# Altium schematic symbol library Fromm.SchLib: 90 symbols
Pins are listed as number, name and electrical type; pins without a type are passive.

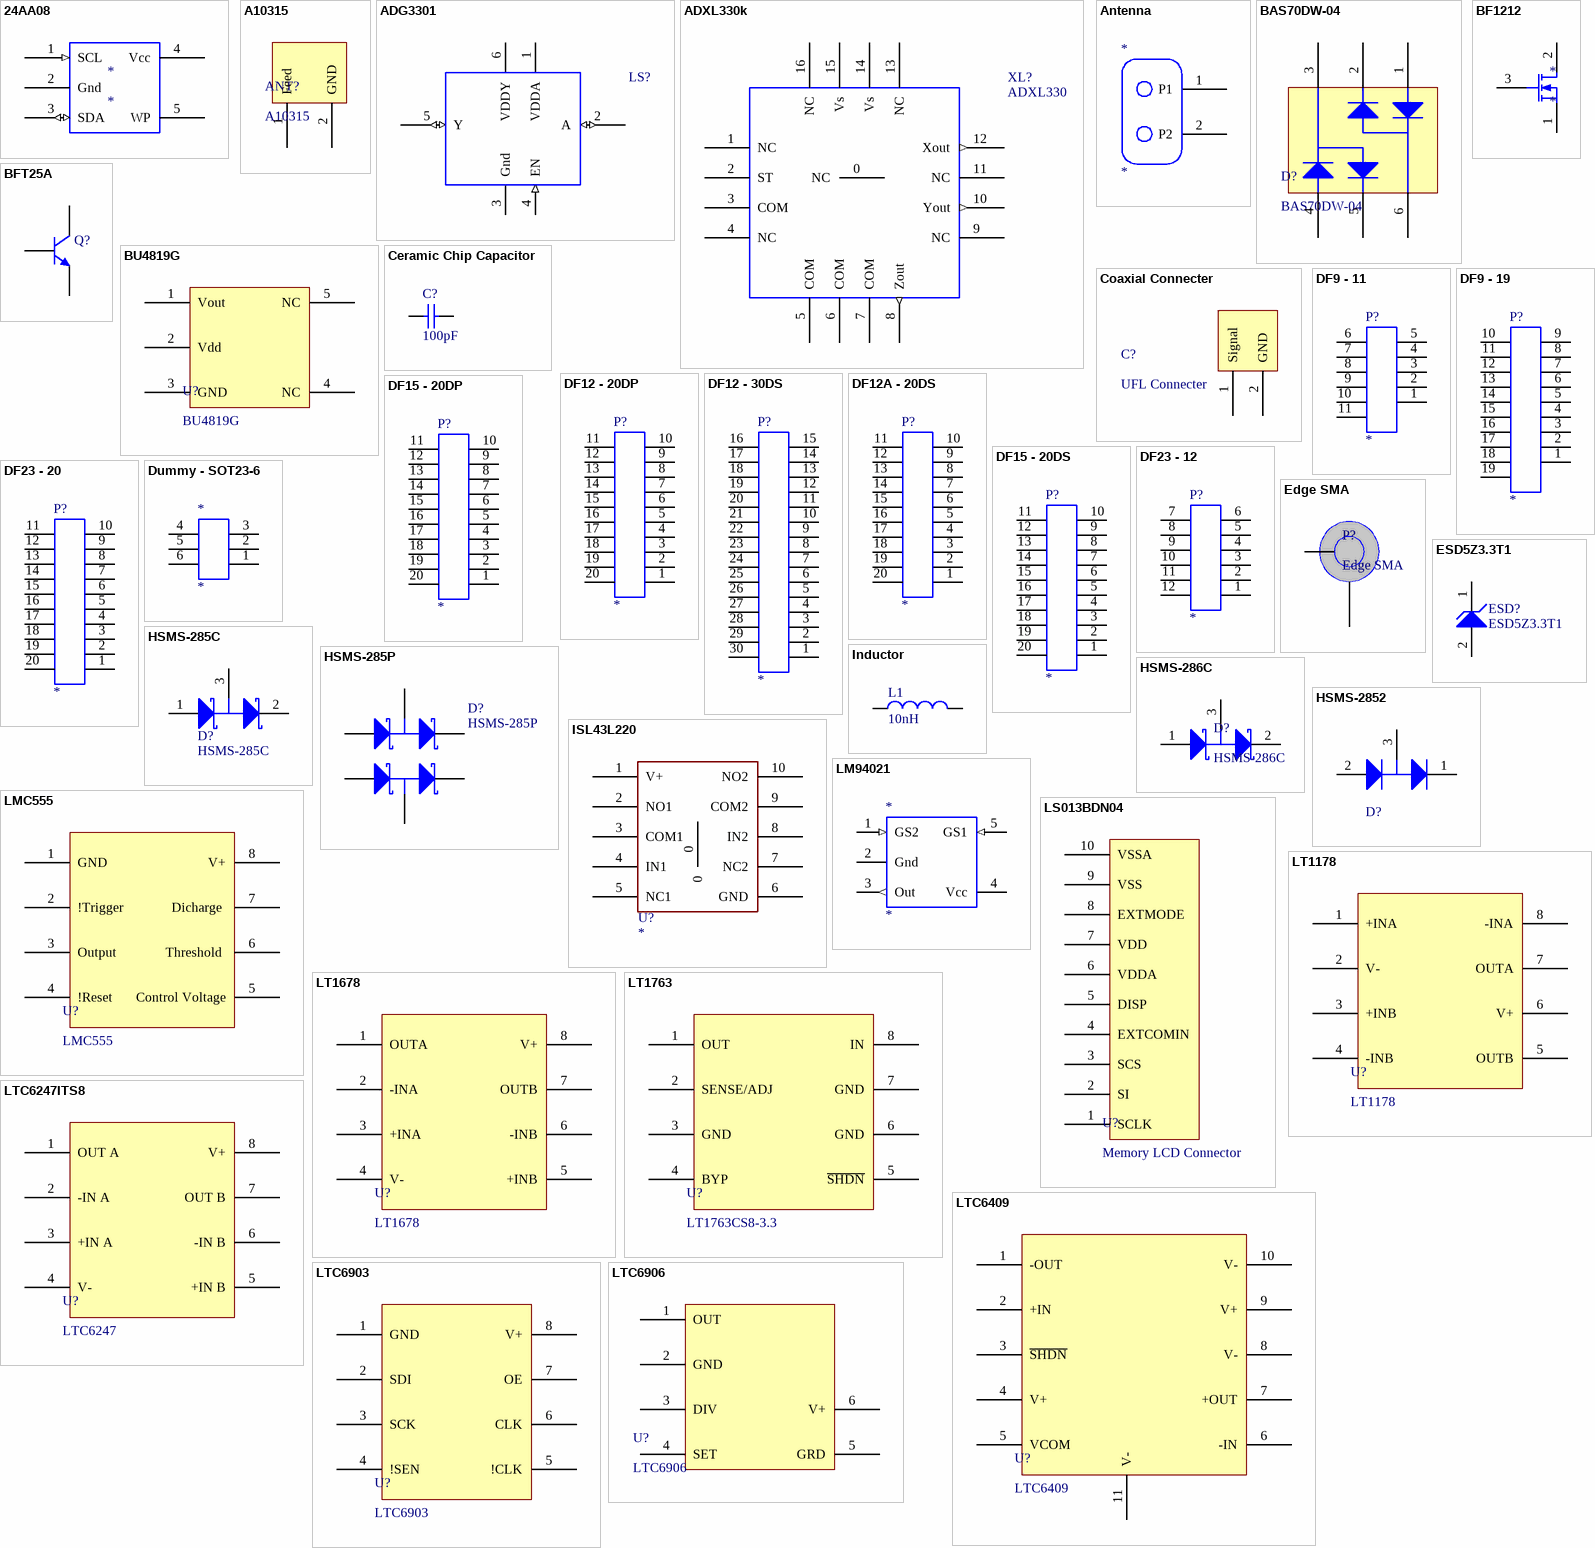
[diagram p0: symbols 24AA08 to LTC6906]

## 24AA08
designator *
Microchip Technology - I2C SERIAL 8K EEPROM - 1.7v
footprint SOT-23-5 (SOT23, 5-Leads, Body 3.0x3.0mm (max), Pitch 0.95mm, IPC Medium Density)
pins: 1 SCL (in) "Serial Clock", 2 Gnd, 3 SDA (io) "Serial Address/Data I/O", 4 Vcc, 5 WP "Write_Protect Input"

## A10315
designator ANT?
Antenova Pentaband Antenna
footprint Antenova A10315 (Antenna)
pins: 1 Feed, 2 GND

## ADG3301
designator LS?  (value not drawn)
Level Shifter  Ensure:  VccA < VccY; DNS: Do Not Stuff Part; Part Number: ADG3301
footprint sc70-6 (DIP; 24 Leads; Row Spacing 15.24 mm; Pitch 2.54 mm)
pins: 1 VDDA (power), 2 A (io) "Low Voltage IO", 3 Gnd (power), 4 EN (in) "Enable Output Translation", 5 Y (io) "High Voltage IO", 6 VDDY (power)

## ADXL330k
designator XL?, comment ADXL330
Analog Devices 3D Accelerometer
footprint 32-QFN - Gnd Pad Only (32-QFN, Gnd Pad Only, for MSP430F1232)
pins: 0 NC, 1 NC, 2 ST "Self Test", 3 COM (power) "GND", 4 NC, 5 COM (power) "GND", 6 COM (power) "GND", 7 COM (power) "GND", 8 Zout (out) "Output", 9 NC, 10 Yout (out), 11 NC, 12 Xout (out) "Output", 13 NC, 14 Vs (power) "2V to 3.6V", 15 Vs (power) "2V to 3.6V", 16 NC

## Antenna
designator *
footprint antenna
pins: 1 P1 "Output", 2 P2 "Output"

## BAS70DW-04
designator D?
Schottky Diode Array
footprint sot-363 BAS70DW (TSOP, 6-Leads, Body 2.00x1.25mm, Pitch 0.65mm, IPC Medium Density)
pins: 1 0, 2 0, 3 0, 4 0, 5 0, 6 0

## BF1212
designator *
footprint sot343r (SOT343R Package for BF1212)
pins: 1 S, 2 D, 3 G

## BFT25A
designator Q?
NPN 5 GHz Wideband Transistor; Part Number: BFT25A; DNS: Do Not Stuff Part; PackageReference: SOT23
footprint SOT-23 (SOT-23; 3 Leads; Body 3.0 x 2.5 mm, inc. leads (LxW max))
pins: 1 B, 2 E, 3 C

## BU4819G
designator U?
1.9V Voltage Detector
footprint BU4819G (SOT23, 5-Leads, Body 2.90x2.80mm, Pitch 0.95mm, IPC Medium Density)
pins: 1 Vout, 2 Vdd, 3 GND, 4 NC, 5 NC

## Ceramic Chip Capacitor
designator C?  value 100pF
Ceramic Capacitor - Standard; DNS: Do Not Stuff Part; Note: *
footprint 0402 (Chip Capacitor; Body 1.0 x 0.5 mm (LxW typ))
footprint 0603 (Chip Capacitor; Body 1.6 x 0.8 mm (LxW typ))
footprint 0805 (Chip Capacitor; Body 2.0 x 1.2 mm (LxW typ))
footprint 1206 (Chip Capacitor; Body 3.2 x 1.6 mm (LxW typ))
footprint 1210 (Chip Capacitor; Body 3.2 x 2.5 mm (LxW typ))
footprint 1812 (Chip Capacitor; Body 4.5 x 3.2 mm (LxW typ))
footprint 1825 (Chip Capacitor; Body 4.5 x 6.4 mm (LxW typ))
pins: 1, 2

## Coaxial Connecter
designator C?, comment UFL Connecter
Tiny SMA Connecter
footprint Coaxial Connecter (Ultra Small Surface Mount Coaxial Connecter)
pins: 1 Signal, 2 GND

## DF9 - 11
designator P?
DF9 - 11 Connector; DNS: Do Not Stuff
footprint DF9 -11 Connector (DF9 -11, 11Pin Connector)
pins: 1, 2, 3, 4, 5, 6, 7, 8, 9, 10, 11

## DF9 - 19
designator P?
DF9 - 19 Connector; DNS: Do Not Stuff
footprint DF9 -19 Connector (DF9 -19, 19 Pin Connector)
pins: 1, 2, 3, 4, 5, 6, 7, 8, 9, 10, 11, 12, 13, 14, 15, 16, 17, 18, 19

## DF12 - 20DP
designator P?
DF12 - 20DP, Connector Header; DNS: Do Not Stuff
footprint DF12 - 20DP (DF12 - 20DP, Connector Header)
pins: 1, 2, 3, 4, 5, 6, 7, 8, 9, 10, 11, 12, 13, 14, 15, 16, 17, 18, 19, 20

## DF12 - 30DS
designator P?
DF12 - 30DS, Connector Receptacle; DNS: Do Not Stuff
footprint DF12 - 30DS (DF12 - 30DS, Connector Receptacle)
pins: 1, 2, 3, 4, 5, 6, 7, 8, 9, 10, 11, 12, 13, 14, 15, 16, 17, 18, 19, 20, 21, 22, 23, 24, 25, 26, 27, 28, 29, 30

## DF12A - 20DS
designator P?
DF12A - 20DS, Connector Receptacle; DNS: Do Not Stuff
footprint DF12 - 20DS (DF12 - 20DS, Connector Receptacle)
pins: 1, 2, 3, 4, 5, 6, 7, 8, 9, 10, 11, 12, 13, 14, 15, 16, 17, 18, 19, 20

## DF15 - 20DP
designator P?
DF15 - 20DP, Connector Header; DNS: Do Not Stuff
footprint DF15 - 20DP (DF15 - 20DP, Connector Header)
pins: 1, 2, 3, 4, 5, 6, 7, 8, 9, 10, 11, 12, 13, 14, 15, 16, 17, 18, 19, 20

## DF15 - 20DS
designator P?
DF15 - 20DS, Connector Receptacle; DNS: Do Not Stuff
footprint DF15 - 20DS (DF15 - 20DS, Connector Receptacle)
pins: 1, 2, 3, 4, 5, 6, 7, 8, 9, 10, 11, 12, 13, 14, 15, 16, 17, 18, 19, 20

## DF23 - 12
designator P?
DF23 - 12, Connector; DNS: Do Not Stuff
footprint DF23 - 12 (DF23 - 12, Connector)
pins: 1, 2, 3, 4, 5, 6, 7, 8, 9, 10, 11, 12

## DF23 - 20
designator P?
DF23 - 20 Connector; DNS: Do Not Stuff
footprint DF23 - 20 (DF23 - 20, Connector)
pins: 1, 2, 3, 4, 5, 6, 7, 8, 9, 10, 11, 12, 13, 14, 15, 16, 17, 18, 19, 20

## Dummy - SOT23-6
designator *
Dummy - SOT23-6
footprint SOT23-6 (SOT-457/SC-74; 6 Leads; Body 3 x 3 mm, inc. leads (LxW max))
pins: 1, 2, 3, 4, 5, 6

## Edge SMA
designator P?
Standard edge sma connector
footprint Right angle SMA (931-1175-ND)
pins: 1 Sig, 2 Body

## ESD5Z3.3T1
designator ESD?
5V Overvoltage Protection Zener
footprint SOD-523 (SOD-523 Footprint)
pins: 1 C, 2 A

## HSMS-285C
designator D?
Agilent Schottky Diode, Bridge Quad, HSMS-285C; Note: *
footprint SOT-323, HSMS-285C (SOT-323/SC-70; 3 Leads; HSMS-285C)
pins: 1 A, 2 K, 3 C

## HSMS-285P
designator D?
Agilent Schottky Diode, Bridge Quad, HSMS-285P; Note: *
footprint SOT-363 (SOT-363 ,SC-88 ,6 Lead)
pins: 1 A, 2 C, 3 K, 4 K, 5 C, 6 A

## HSMS-286C
designator D?
950Mhz to 5Ghz Dual Diodes
footprint HSMS-286C (950 Mhz - 5 Ghz Dual Schottky Diode)
pins: 1 A, 2 K, 3 C

## HSMS-2852
designator D?  (value not drawn)
Dual Schottky Diode RF
footprint SOT-23  WIDE
pins: 1, 2, 3

## Inductor
designator L1  value 10nH  (hidden comment: Inductor)
Code_JEITA: 0805; Code_IPC: 2012[0805]
footprint 0805 (Chip Capacitor; Body 2.0 x 1.2 mm (LxW typ))
footprint 0603 (Chip Capacitor; Body 1.6 x 0.8 mm (LxW typ))
footprint 1206 (Chip Capacitor; Body 3.2 x 1.6 mm (LxW typ))
footprint 0402 (Chip Capacitor; Body 1.0 x 0.5 mm (LxW typ))
pins: 1, 2

## ISL43L220
designator U?
Ultra Low ON-Resistance, Low Voltage, Single Supply, Dual SPDT Analog Switch
footprint Thin Dual Flat No-Lead plastic Package (TDFN, 10-Leads, Body 3.0x3.0mm (max), Pitch 0.50mm, IPC Medium Density)
pins: 0, 1 V+, 2 NO1, 3 COM1, 4 IN1, 5 NC1, 6 GND, 7 NC2, 8 IN2, 9 COM2, 10 NO2

## LM94021
designator *
Temperature Sensor
footprint SC70 (Ultra low Power LDO - TI)
pins: 1 GS2 (in) "Gain Select 2", 2 Gnd (power), 3 Out (out) "Enable Output Translation", 4 Vcc (power) "Low Voltage IO", 5 GS1 (in) "Gain Select 1"

## LMC555
designator U?
Timer 3MHZ
footprint TSOP65P490X110-8N (TSOP, 8-Leads, Body 3.00x3.00mm, Pitch 0.65mm, IPC Medium Density)
pins: 1 GND "Ground", 2 !Trigger "set to reset", 3 Output  "Output Waveform", 4 !Reset "Disable or reset", 5 Control Voltage "Controls the threshold and trigger voltage", 6 Threshold  "compare the voltage applied with 2/3 VCC", 7 Dicharge  "Discharge a capacitor between intervals", 8 V+ "Supply Voltage"

## LS013BDN04
designator U?, comment Memory LCD Connector
LS013B4DN04 Flex Connector
footprint 1-1734592-0 (FPC Connector)
pins: 1 SCLK "Serial clock signal", 2 SI "Serial data input signal", 3 SCS "Chip select signal", 4 EXTCOMIN "External COM inversion signal input", 5 DISP "Display ON/OFF signal", 6 VDDA "Power supply (Analog)", 7 VDD "Power supply (Digital)", 8 EXTMODE "COM inversion select terminal", 9 VSS "GND (Digital)", 10 VSSA "GND (Analog)"

## LT1178
designator U?
Dual Precision Op Amp
footprint LT1178 (Op Amp)
pins: 1 +INA, 2 V-, 3 +INB, 4 -INB, 5 OUTB, 6 V+, 7 OUTA, 8 -INA

## LT1678
designator U?
Dual Precision Op Amp
footprint LT1678 (Rail to Rail Precision Op Amp)
pins: 1 OUTA, 2 -INA, 3 +INA, 4 V-, 5 +INB, 6 -INB, 7 OUTB, 8 V+

## LT1763
designator U?, comment LT1763CS8-3.3
Low Dropout Regulator
footprint LT1763 (Low Dropout Regulator)
pins: 1 OUT, 2 SENSE/ADJ, 3 GND, 4 BYP, 5 ~{SHDN}, 6 GND, 7 GND, 8 IN

## LTC6247ITS8
designator U?, comment LTC6247
TS8 Package High Frequency OpAmp
footprint LTC6247ITS8#TRMPBFCT (TS8 Package Opamp)
pins: 1 OUT A, 2 -IN A, 3 +IN A, 4 V-, 5 +IN B, 6 -IN B, 7 OUT B, 8 V+

## LTC6409
designator U?
High Frequency Op Amp
footprint LTC6409 (QFN UDP high frequency op amp)
pins: 1 -OUT, 2 +IN, 3 ~{SHDN}, 4 V+, 5 VCOM, 6 -IN, 7 +OUT, 8 V-, 9 V+, 10 V-, 11 V-

## LTC6903
designator U?
Programmable Oscillator
footprint LTC6903 (Programmable Oscillator)
pins: 1 GND, 2 SDI, 3 SCK, 4 !SEN, 5 !CLK, 6 CLK, 7 OE, 8 V+

## LTC6906
designator U?
LP Oscilloter
footprint 6-Lead Plastic TSOT-23 (TSOP, 6-Leads, Body 2.90x1.63mm, Pitch 0.95mm, IPC Medium Density)
pins: 1 OUT "Oscillator Output", 2 GND "Ground", 3 DIV "Divier Setting Input", 4 SET "Frequency Setting Resistor Input", 5 GRD "Guard Signal", 6 V+ "Voltage Supply"

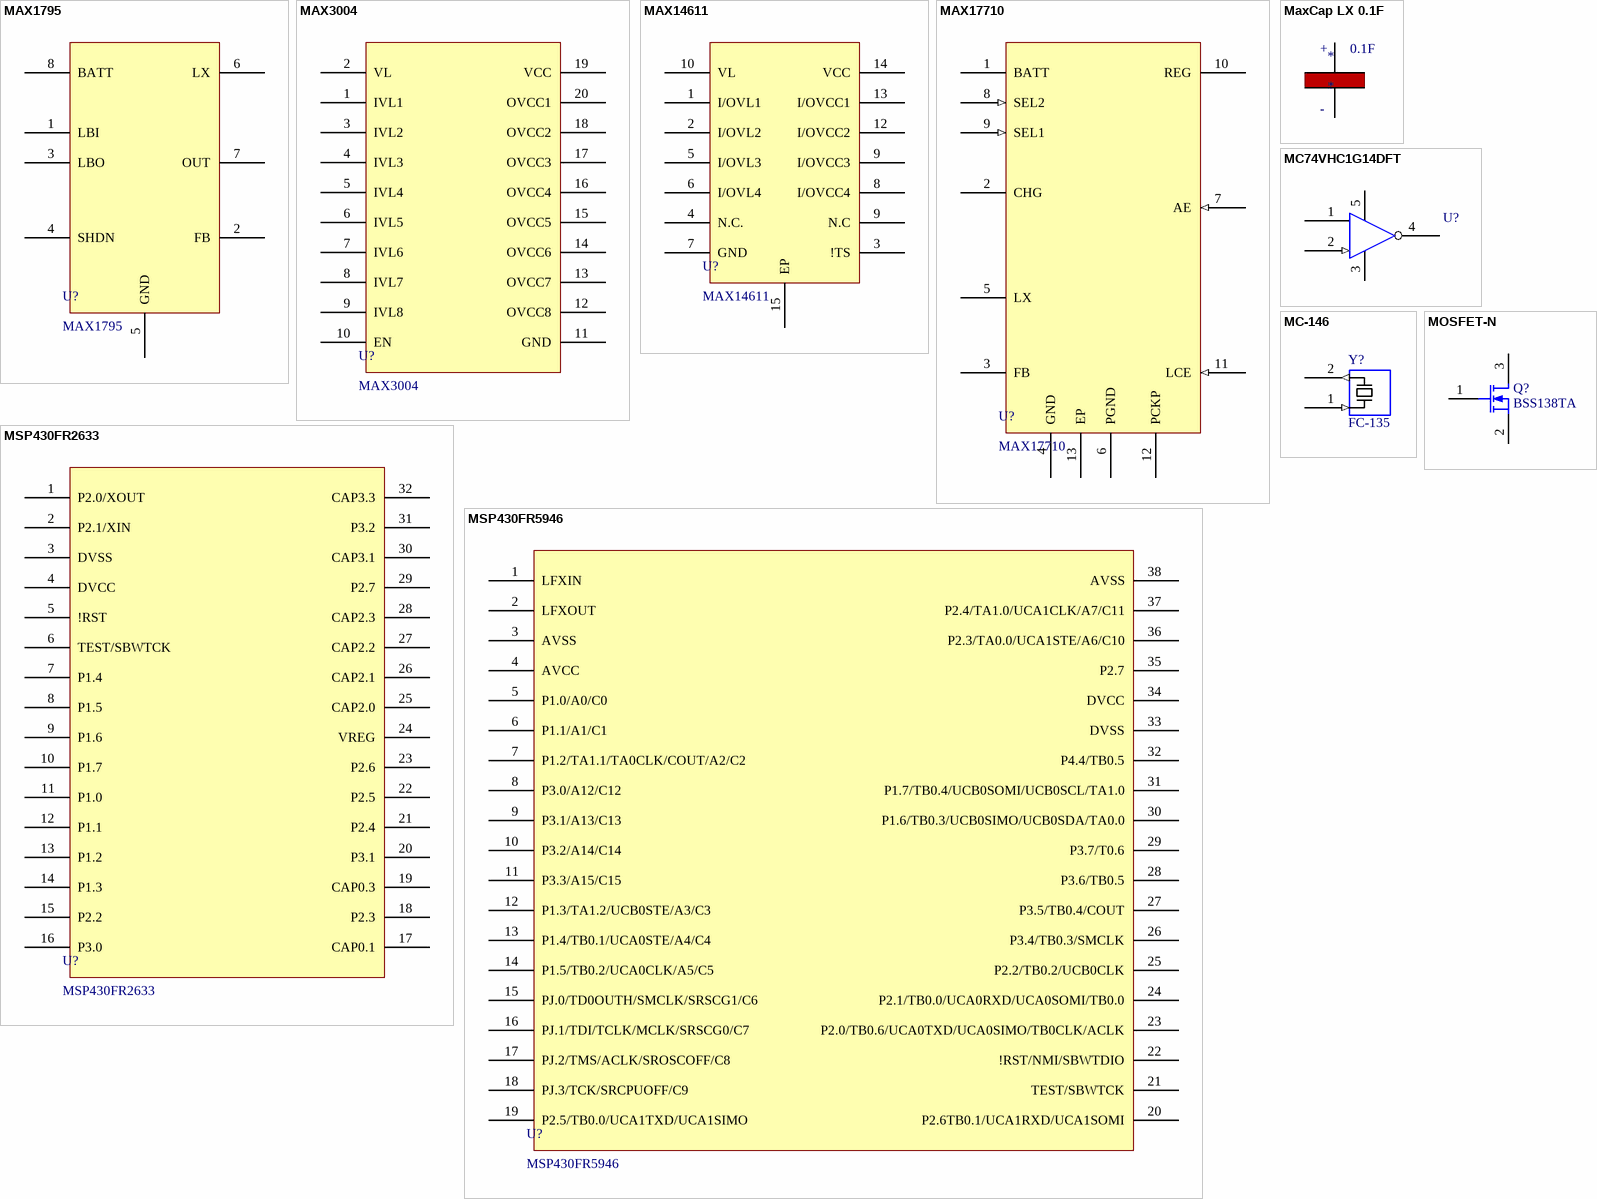
[diagram p1: symbols MAX1795 to MSP430FR5946]

## MAX1795
designator U?
Boost Converter
footprint MAX1795 (Boost Converter)
pins: 1 LBI, 2 FB, 3 LBO, 4 SHDN, 5 GND, 6 LX, 7 OUT, 8 BATT

## MAX3004
designator U?
Level Translator
footprint MAX3004 (Octal Level Shifter)
pins: 1 IVL1, 2 VL, 3 IVL2, 4 IVL3, 5 IVL4, 6 IVL5, 7 IVL6, 8 IVL7, 9 IVL8, 10 EN, 11 GND, 12 OVCC8, 13 OVCC7, 14 OVCC6, 15 OVCC5, 16 OVCC4, 17 OVCC3, 18 OVCC2, 19 VCC, 20 OVCC1

## MAX14611
designator U?
Logic Level Translator
footprint MAX14611 (Voltage Translator)
pins: 1 I/OVL1, 2 I/OVL2, 3 !TS, 4 N.C., 5 I/OVL3, 6 I/OVL4, 7 GND, 8 I/OVCC4, 9 N.C, 9 I/OVCC3, 10 VL, 12 I/OVCC2, 13 I/OVCC1, 14 VCC, 15 EP

## MAX17710
designator U?
Battery Charger, Boost Converter, and Regulator
footprint MAX17710 (Boost Converter, Battery Charger, and Regulator)
pins: 1 BATT (power), 2 CHG, 3 FB, 4 GND (power), 5 LX, 6 PGND (power), 7 AE (in), 8 SEL2 (in), 9 SEL1 (in), 10 REG (power), 11 LCE (in), 12 PCKP, 13 EP (power)

## MaxCap LX 0.1F
designator *
MaxCap LX 0.1F, low leakage supper cap 5.5v
footprint Maxcap LX 0.1F (Maxcap LX Series, 0.1F, Diameter  11mm, Leads 5.1mm)
pins: 1 Positive (power), 2 GND (power)
text: +; 0.1F; -

## MC74VHC1G14DFT
designator U?  (value not drawn)
1uA CMOS Schmitt-Trigger Inverter
footprint SC70-5
pins: 1 NC, 2 A (in) "Input", 3 Gnd (power), 4 Y "Output", 5 VDD (power)

## MC-146
designator Y?, comment FC-135
FC-135 Crystal D-K SE2416CT (MC-146)
footprint FC-135 (FC-135   crystal - epson eletronics)
pins: 1 (in) "Output", 2 (out) "Output"

## MOSFET-N
designator Q?, comment BSS138TA
N-Channel MOSFET; PackageDocument: 1995/1996; Published: 8-Jun-2000; LatestRevisionDate: 17-Jul-2002; LatestRevisionNote: Re-released for DXP Platform.; PackageReference: E3; Publisher: Altium Limited
footprint SOT-23 (SOT-23; 3 Leads; Body 3.0 x 2.5 mm, inc. leads (LxW max))
pins: 1 G, 2 S, 3 D

## MSP430FR2633
designator U?
Ultra low power processor
footprint MSP430FR2633 (MSP430 32TSSOP 6.2x11)
pins: 1 P2.0/XOUT, 2 P2.1/XIN, 3 DVSS, 4 DVCC, 5 !RST, 6 TEST/SBWTCK, 7 P1.4, 8 P1.5, 9 P1.6, 10 P1.7, 11 P1.0, 12 P1.1, 13 P1.2, 14 P1.3, 15 P2.2, 16 P3.0, 17 CAP0.1, 18 P2.3, 19 CAP0.3, 20 P3.1, 21 P2.4, 22 P2.5, 23 P2.6, 24 VREG, 25 CAP2.0, 26 CAP2.1, 27 CAP2.2, 28 CAP2.3, 29 P2.7, 30 CAP3.1, 31 P3.2, 32 CAP3.3

## MSP430FR5946
designator U?
ULP MCU
footprint MSP4305946 (38 SOP)
pins: 1 LFXIN, 2 LFXOUT, 3 AVSS, 4 AVCC, 5 P1.0/A0/C0, 6 P1.1/A1/C1, 7 P1.2/TA1.1/TA0CLK/COUT/A2/C2, 8 P3.0/A12/C12, 9 P3.1/A13/C13, 10 P3.2/A14/C14, 11 P3.3/A15/C15, 12 P1.3/TA1.2/UCB0STE/A3/C3, 13 P1.4/TB0.1/UCA0STE/A4/C4, 14 P1.5/TB0.2/UCA0CLK/A5/C5, 15 PJ.0/TD0OUTH/SMCLK/SRSCG1/C6, 16 PJ.1/TDI/TCLK/MCLK/SRSCG0/C7, 17 PJ.2/TMS/ACLK/SROSCOFF/C8, 18 PJ.3/TCK/SRCPUOFF/C9, 19 P2.5/TB0.0/UCA1TXD/UCA1SIMO, 20 P2.6TB0.1/UCA1RXD/UCA1SOMI, 21 TEST/SBWTCK, 22 !RST/NMI/SBWTDIO, 23 P2.0/TB0.6/UCA0TXD/UCA0SIMO/TB0CLK/ACLK, 24 P2.1/TB0.0/UCA0RXD/UCA0SOMI/TB0.0, 25 P2.2/TB0.2/UCB0CLK, 26 P3.4/TB0.3/SMCLK, 27 P3.5/TB0.4/COUT, 28 P3.6/TB0.5, 29 P3.7/T0.6, 30 P1.6/TB0.3/UCB0SIMO/UCB0SDA/TA0.0, 31 P1.7/TB0.4/UCB0SOMI/UCB0SCL/TA1.0, 32 P4.4/TB0.5, 33 DVSS, 34 DVCC, 35 P2.7, 36 P2.3/TA0.0/UCA1STE/A6/C10, 37 P2.4/TA1.0/UCA1CLK/A7/C11, 38 AVSS

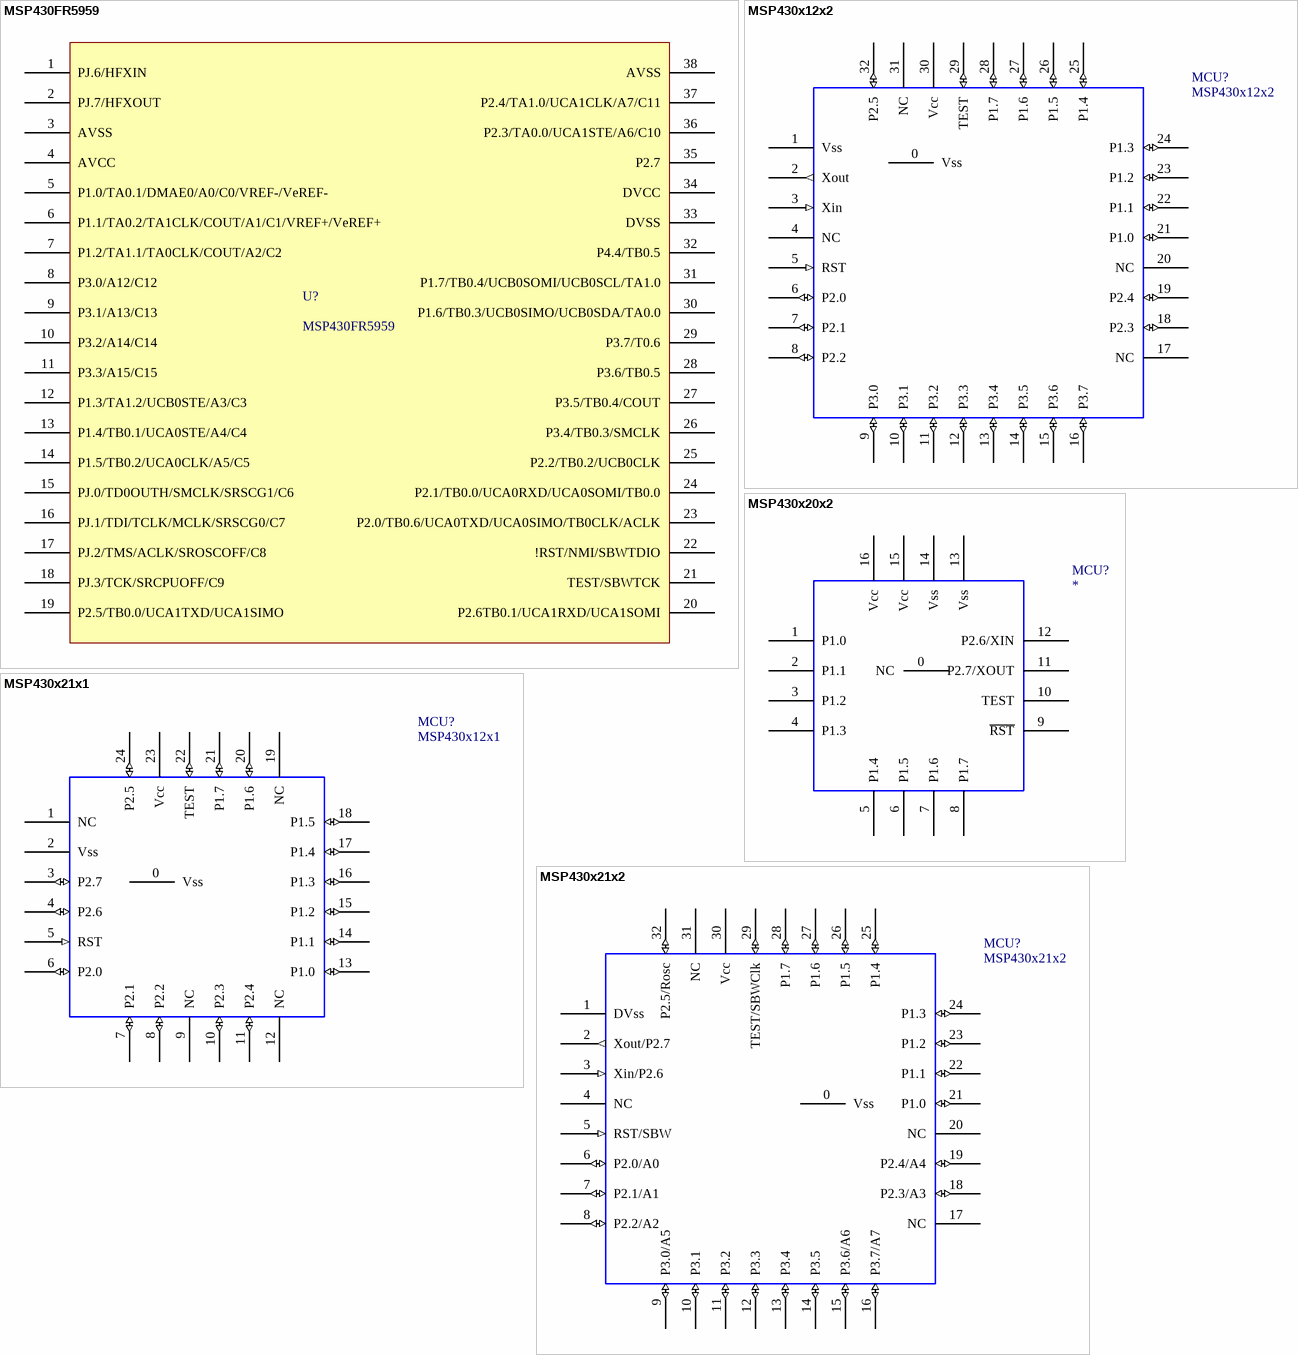
[diagram p2: symbols MSP430FR5959 to MSP430x21x2]

## MSP430FR5959
designator U?
ULP MSC
footprint MSP4305946 (38 SOP)
pins: 1 PJ.6/HFXIN, 2 PJ.7/HFXOUT, 3 AVSS, 4 AVCC, 5 P1.0/TA0.1/DMAE0/A0/C0/VREF-/VeREF-, 6 P1.1/TA0.2/TA1CLK/COUT/A1/C1/VREF+/VeREF+, 7 P1.2/TA1.1/TA0CLK/COUT/A2/C2, 8 P3.0/A12/C12, 9 P3.1/A13/C13, 10 P3.2/A14/C14, 11 P3.3/A15/C15, 12 P1.3/TA1.2/UCB0STE/A3/C3, 13 P1.4/TB0.1/UCA0STE/A4/C4, 14 P1.5/TB0.2/UCA0CLK/A5/C5, 15 PJ.0/TD0OUTH/SMCLK/SRSCG1/C6, 16 PJ.1/TDI/TCLK/MCLK/SRSCG0/C7, 17 PJ.2/TMS/ACLK/SROSCOFF/C8, 18 PJ.3/TCK/SRCPUOFF/C9, 19 P2.5/TB0.0/UCA1TXD/UCA1SIMO, 20 P2.6TB0.1/UCA1RXD/UCA1SOMI, 21 TEST/SBWTCK, 22 !RST/NMI/SBWTDIO, 23 P2.0/TB0.6/UCA0TXD/UCA0SIMO/TB0CLK/ACLK, 24 P2.1/TB0.0/UCA0RXD/UCA0SOMI/TB0.0, 25 P2.2/TB0.2/UCB0CLK, 26 P3.4/TB0.3/SMCLK, 27 P3.5/TB0.4/COUT, 28 P3.6/TB0.5, 29 P3.7/T0.6, 30 P1.6/TB0.3/UCB0SIMO/UCB0SDA/TA0.0, 31 P1.7/TB0.4/UCB0SOMI/UCB0SCL/TA1.0, 32 P4.4/TB0.5, 33 DVSS, 34 DVCC, 35 P2.7, 36 P2.3/TA0.0/UCA1STE/A6/C10, 37 P2.4/TA1.0/UCA1CLK/A7/C11, 38 AVSS

## MSP430x12x2
designator MCU?
32QFN MSP430x12x2
footprint 32-QFN (32-QFN, for MSP430F1232)
pins: 0 Vss (power) "Output", 1 Vss (power) "Output", 2 Xout (out) "Output", 3 Xin (in) "Output", 4 NC "Output", 5 RST (in) "Output", 6 P2.0 (io) "Output", 7 P2.1 (io) "Output", 8 P2.2 (io) "Output", 9 P3.0 (io) "Output", 10 P3.1 (io) "Output", 11 P3.2 (io) "Output", 12 P3.3 (io) "Output", 13 P3.4 (io) "Output", 14 P3.5 (io) "Output", 15 P3.6 (io) "Output", 16 P3.7 (io) "Output", 17 NC "Output", 18 P2.3 (io) "Output", 19 P2.4 (io) "Output", 20 NC "Output", 21 P1.0 (io) "Output", 22 P1.1 (io) "Output", 23 P1.2 (io) "Output", 24 P1.3 (io) "Output", 25 P1.4 (io) "Output", 26 P1.5 (io) "Output", 27 P1.6 (io) "Output", 28 P1.7 (io) "Output", 29 TEST (io) "Output", 30 Vcc (power) "Output", 31 NC "Output", 32 P2.5 (io) "Output"

## MSP430x20x2
designator MCU?
16QFN MSP430x20x2
footprint 16-QFN (16-QFN, LFCSP (CP-16-5) for ADXL330k)
pins: 0 NC, 1 P1.0, 2 P1.1 "Self Test", 3 P1.2 "GND", 4 P1.3, 5 P1.4 "GND", 6 P1.5 "GND", 7 P1.6 "GND", 8 P1.7 "Output", 9 ~{RST}, 10 TEST, 11 P2.7/XOUT, 12 P2.6/XIN "Output", 13 Vss (power), 14 Vss (power) "2V to 3.6V", 15 Vcc (power) "2V to 3.6V", 16 Vcc (power)

## MSP430x21x1
designator MCU?, comment MSP430x12x1
24QFN MSP430x21x1
footprint 24-QFN (24-QFN, for MSP430Fx21x1)
pins: 0 Vss (power) "Output", 1 NC "Output", 2 Vss (power) "Output", 3 P2.7 (io) "Output", 4 P2.6 (io) "Output", 5 RST (in) "Output", 6 P2.0 (io) "Output", 7 P2.1 (io) "Output", 8 P2.2 (io) "Output", 9 NC "Output", 10 P2.3 (io) "Output", 11 P2.4 (io) "Output", 12 NC "Output", 13 P1.0 (io) "Output", 14 P1.1 (io) "Output", 15 P1.2 (io) "Output", 16 P1.3 (io) "Output", 17 P1.4 (io) "Output", 18 P1.5 (io) "Output", 19 NC "Output", 20 P1.6 (io) "Output", 21 P1.7 (io) "Output", 22 TEST (io) "Output", 23 Vcc (power) "Output", 24 P2.5 (io) "Output"

## MSP430x21x2
designator MCU?
32QFN MSP430x21x2
footprint 32-QFN (32-QFN, for MSP430F1232)
pins: 0 Vss (power) "Output", 1 DVss (power), 2 Xout/P2.7 (out), 3 Xin/P2.6 (in), 4 NC "Output", 5 RST/SBW (in), 6 P2.0/A0 (io), 7 P2.1/A1 (io) "Output", 8 P2.2/A2 (io) "Output", 9 P3.0/A5 (io), 10 P3.1 (io) "Output", 11 P3.2 (io) "Output", 12 P3.3 (io) "Output", 13 P3.4 (io) "Output", 14 P3.5 (io) "Output", 15 P3.6/A6 (io), 16 P3.7/A7 (io), 17 NC "Output", 18 P2.3/A3 (io) "Output", 19 P2.4/A4 (io) "Output", 20 NC "Output", 21 P1.0 (io) "Output", 22 P1.1 (io) "Output", 23 P1.2 (io) "Output", 24 P1.3 (io) "Output", 25 P1.4 (io) "Output", 26 P1.5 (io) "Output", 27 P1.6 (io) "Output", 28 P1.7 (io) "Output", 29 TEST/SBWClk (io) "Output", 30 Vcc (power) "Output", 31 NC "Output", 32 P2.5/Rosc (io) "Output"

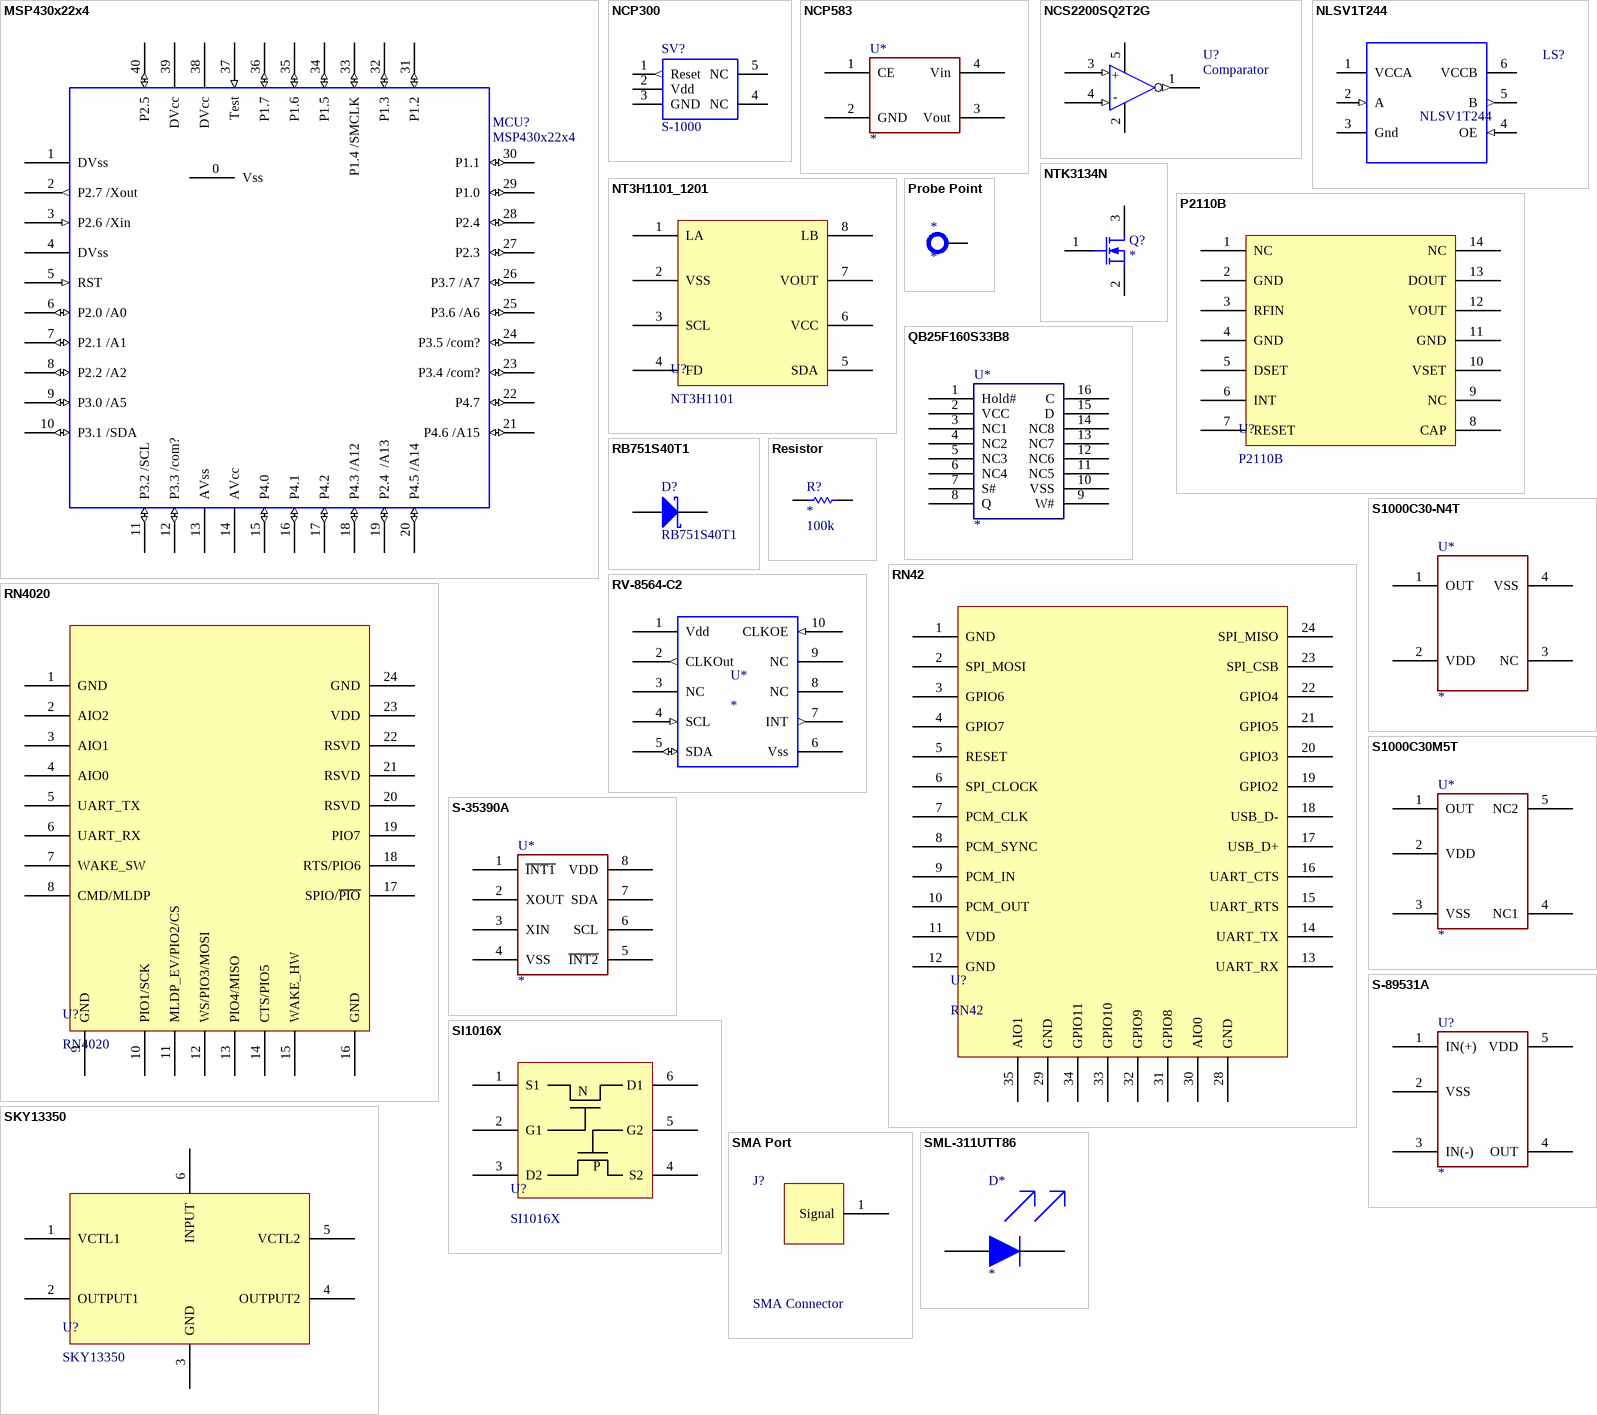
[diagram p3: symbols MSP430x22x4 to SML-311UTT86]

## MSP430x22x4
designator MCU?
40QFN MSP430x22x4
footprint 40-QFN (QFN, 40-Leads, Body 6.2x6.2mm (max), Pitch 0.50mm, IPC Medium Density - MSP430x22x4)
pins: 0 Vss (power) "Output", 1 DVss (power) "Output", 2 P2.7 /Xout (out) "Output", 3 P2.6 /Xin (in) "Output", 4 DVss (power) "Output", 5 RST (in), 6 P2.0 /A0 (io), 7 P2.1 /A1 (io), 8 P2.2 /A2 (io), 9 P3.0 /A5 (io), 10 P3.1 /SDA (io), 11 P3.2 /SCL (io), 12 P3.3 /com? (io), 13 AVss (power), 14 AVcc (power), 15 P4.0 (io), 16 P4.1 (io), 17 P4.2 (io), 18 P4.3 /A12 (io), 19 P2.4  /A13 (io), 20 P4.5 /A14 (io), 21 P4.6 /A15 (io), 22 P4.7 (io), 23 P3.4 /com? (io), 24 P3.5 /com? (io), 25 P3.6 /A6 (io), 26 P3.7 /A7 (io), 27 P2.3 (io), 28 P2.4 (io), 29 P1.0 (io), 30 P1.1 (io), 31 P1.2 (io), 32 P1.3 (io), 33 P1.4 /SMCLK (io), 34 P1.5 (io), 35 P1.6 (io), 36 P1.7 (io), 37 Test (in), 38 DVcc (power), 39 DVcc (power), 40 P2.5 (io)

## NCP300
designator SV?, comment S-1000
300nA, 1.8V Supervisor (S-1000 or NCP300LSN)
footprint SOT-23-5 (SOT-23/SC-74A; 5 Leads; Body 3 x 3.1 mm, inc. leads (LxW max))
pins: 1 Reset (out), 2 Vdd (power), 3 GND (power), 4 NC, 5 NC

## NCP583
designator U*
Ultra-Low Iq 150mA CMOS LDO Regulator with Enable
footprint SC82-AB
pins: 1 CE, 2 GND, 3 Vout, 4 Vin

## NCS2200SQ2T2G
designator U?, comment Comparator
On Semi 10uA Comparator
footprint sc70-5 (SC70-5)
pins: 1 OUT (out) "Output", 2 Gnd (power), 3 IN+ (in) "Positive Input", 4 In- (in) "Inverting Input", 5 VDD (power)
text: +; -

## NLSV1T244
designator LS?
Level Shifter: 1-Bit Dual-Supply Non-Inverting Level Translator; Part Number: ADG3301; DNS: Do Not Stuff Part
footprint UDFN6 (UDFN6 - Level Shifter -  NLSV1T244)
pins: 1 VCCA (power) "VDDA", 2 A (in) "Low Voltage IO", 3 Gnd (power), 4 OE (in) "Enable Output Translation", 5 B (out) "High Voltage IO", 6 VCCB (power) "VDDY"

## NT3H1101_1201
designator U?, comment NT3H1101
NFC Transponder
footprint NT3H1101_1201 (NFC IC with Energy Harvesting)
pins: 1 LA, 2 VSS, 3 SCL, 4 FD, 5 SDA, 6 VCC, 7 VOUT, 8 LB

## NTK3134N
designator Q?
Powe Mosfet 20V, 890mA, Single N-channel
footprint SOT723 (SOT723, 3-Leads, Body 1.3x1.3mm (max), Pitch 0.40mm, IPC Medium Density)
pins: 1 G, 2 S, 3 D

## P2110B
designator U?
PowerCast RF AFE
footprint P2110b (Power Harvesting AFE IC)
pins: 1 NC, 2 GND, 3 RFIN, 4 GND, 5 DSET, 6 INT, 7 RESET, 8 CAP, 9 NC, 10 VSET, 11 GND, 12 VOUT, 13 DOUT, 14 NC

## Probe Point
designator *
Probe Point for debug
footprint Probe Point (35mil Pad, 20mil hole size)
pins: 0

## QB25F160S33B8
designator U*
Intel Serial flash memory, 16Mbit, SOIC-16
footprint SOIC16 (SOIC 16)
pins: 1 Hold#, 2 VCC, 3 NC1, 4 NC2, 5 NC3, 6 NC4, 7 S#, 8 Q, 9 W#, 10 VSS, 11 NC5, 12 NC6, 13 NC7, 14 NC8, 15 D, 16 C

## RB751S40T1
designator D?
Schottky Diode; Published: 8-Jun-2000; LatestRevisionDate: 17-Jul-2002; LatestRevisionNote: Re-released for DXP Platform.; PackageReference: SMB; Publisher: Altium Limited; Code_JEDEC: DO-214-AA
footprint SOD-523 (SOD-523 Footprint)
pins: 1 C, 2 A

## Resistor
designator R?  Vaule: 100k
Thick Film Resistor
footprint 0805 (Chip Capacitor; Body 2.0 x 1.2 mm (LxW typ))
footprint 0402 (Chip Capacitor; Body 1.0 x 0.5 mm (LxW typ))
footprint 0603 (Chip Capacitor; Body 1.6 x 0.8 mm (LxW typ))
pins: 1, 2

## RN42
designator U?
Bluetooth Module
footprint RN42 (WIth Antenna Keepout Custom Footprint)
pins: 1 GND, 2 SPI_MOSI, 3 GPIO6, 4 GPIO7, 5 RESET, 6 SPI_CLOCK, 7 PCM_CLK, 8 PCM_SYNC, 9 PCM_IN, 10 PCM_OUT, 11 VDD, 12 GND, 13 UART_RX, 14 UART_TX, 15 UART_RTS, 16 UART_CTS, 17 USB_D+, 18 USB_D-, 19 GPIO2, 20 GPIO3, 21 GPIO5, 22 GPIO4, 23 SPI_CSB, 24 SPI_MISO, 28 GND, 29 GND, 30 AIO0, 31 GPIO8, 32 GPIO9, 33 GPIO10, 34 GPIO11, 35 AIO1

## RN4020
designator U?
BLE Module
footprint RN4020 (BLE Module)
pins: 1 GND, 2 AIO2, 3 AIO1, 4 AIO0, 5 UART_TX, 6 UART_RX, 7 WAKE_SW, 8 CMD/MLDP, 9 GND, 10 PIO1/SCK, 11 MLDP_EV/PIO2/CS, 12 WS/PIO3/MOSI, 13 PIO4/MISO, 14 CTS/PIO5, 15 WAKE_HW, 16 GND, 17 SPIO/~{PIO}, 18 RTS/PIO6, 19 PIO7, 20 RSVD, 21 RSVD, 22 RSVD, 23 VDD, 24 GND

## RV-8564-C2
designator U*
RV-8564-C2, Real Time Clock
footprint RV-8564-C2 (RV-8564-C2 RTC Package: LCC, 10-Pins, Body 5.2x3.4mm (max), Pitch 1.00mm, IPC Medium Density)
pins: 1 Vdd (power), 2 CLKOut (out), 3 NC, 4 SCL (in), 5 SDA (io), 6 Vss (power), 7 INT (out), 8 NC, 9 NC, 10 CLKOE (in)

## S1000C30-N4T
designator U*
Ultra-small package High precision protection(SC82-AB)
footprint SC82-AB
pins: 1 OUT, 2 VDD, 3 NC, 4 VSS

## S1000C30M5T
designator U*
Ultra small package High precision voltage protection(SOT-23-5)
footprint SOT-23-5 (SOT-23/SC-74A; 5 Leads; Body 3 x 3.1 mm, inc. leads (LxW max))
pins: 1 OUT, 2 VDD, 3 VSS, 4 NC1, 5 NC2

## S-35390A
designator U*
2-WIRE-REAL-TIME CLOCK(SNT-8A)
footprint SNT-8A
pins: 1 ~{INT1}, 2 XOUT, 3 XIN, 4 VSS, 5 ~{INT2}, 6 SCL, 7 SDA, 8 VDD

## S-89531A
designator U?
0.7uA rail to rail cmos comparator
footprint SC-88A (SC-88A 5-Leads, Body 2.2x2.2mm (max), Pitch 0.65mm, IPC Medium Density)
pins: 1 IN(+), 2 VSS, 3 IN(-), 4 OUT, 5 VDD

## SI1016X
designator U?
CMOS IC
footprint SI1016X (CMOS IC)
pins: 1 S1, 2 G1, 3 D2, 4 S2, 5 G2, 6 D1
text: N; P

## SKY13350
designator U?
RF Analog Switch
footprint SKY13350 (863-1451-1-ND)
pins: 1 VCTL1, 2 OUTPUT1, 3 GND, 4 OUTPUT2, 5 VCTL2, 6 INPUT

## SMA Port
designator J?, comment SMA Connector
Standard SMA Port
footprint Standard SMA (SMA Port)
pins: 0 GND (power) hidden to GND, 1 Signal

## SML-311UTT86
designator D*
LED 630NM RED WTR CLR 0603 SMD
footprint 0603 (Chip Capacitor; Body 1.6 x 0.8 mm (LxW typ))
pins: 1, 2

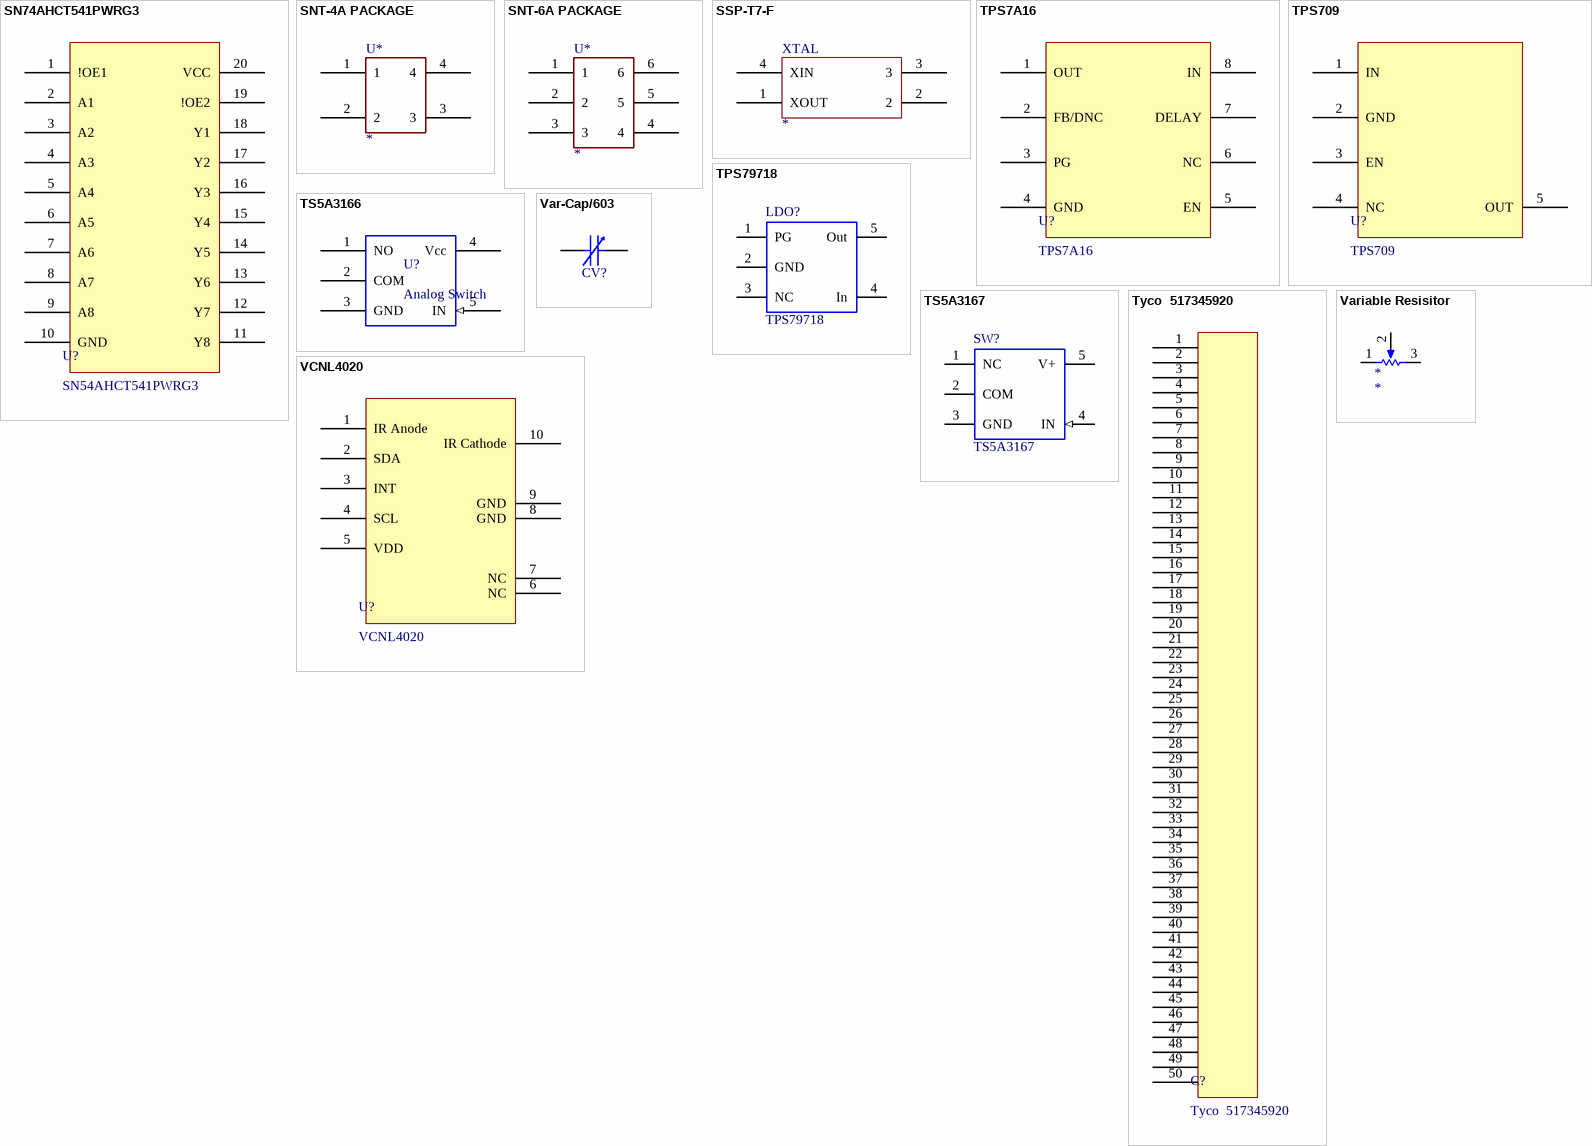
[diagram p4: symbols SN74AHCT541PWRG3 to VCNL4020]

## SN74AHCT541PWRG3
designator U?, comment SN54AHCT541PWRG3
TI Octal Buffer
footprint SN74AHCT541PWRG3 (TI Octal Buffer)
pins: 1 !OE1, 2 A1, 3 A2, 4 A3, 5 A4, 6 A5, 7 A6, 8 A7, 9 A8, 10 GND, 11 Y8, 12 Y7, 13 Y6, 14 Y5, 15 Y4, 16 Y3, 17 Y2, 18 Y1, 19 !OE2, 20 VCC

## SNT-4A PACKAGE
designator U*
SNT-4A PACKAGE
footprint SNT-4A
pins: 1, 2, 3, 4

## SNT-6A PACKAGE
designator U*
SNT-6A PACKAGE
footprint SNT-6A
pins: 1, 2, 3, 4, 5, 6

## SSP-T7-F
designator XTAL
Quartz Crystal-Surface Mount Type for Low Frequency
footprint XTAL 4 PIN
pins: 1 XOUT, 2, 3, 4 XIN

## TPS7A16
designator U?
Low-Dropout Voltage Regulator
footprint TSOP65P490X110_HS-9N (TSOP, 8-Leads, Body 3.00x3.00mm, Pitch 0.65mm, Thermal Pad 1.92x1.60mm, IPC Medium Density)
pins: 1 OUT, 2 FB/DNC, 3 PG, 4 GND, 5 EN, 6 NC, 7 DELAY, 8 IN

## TPS709
designator U?
Ultra low power Voltage Regulator
footprint SOT95P280X145-5N (SOT23, 5-Leads, Body 2.90x2.80mm, Pitch 0.95mm, IPC Medium Density)
pins: 1 IN, 2 GND, 3 EN, 4 NC, 5 OUT

## TPS79718
designator LDO?
Ultra Low Power LDO - TI
footprint SOT-23-5 (SOT-23/SC-74A; 5 Leads; Body 3 x 3.1 mm, inc. leads (LxW max))
pins: 1 PG (oc), 2 GND (power), 3 NC, 4 In (power), 5 Out (power)

## TS5A3166
designator U?, comment Analog Switch
TI Analog Switch 100nA 1ohm Normally Open
footprint sc70-5 (SC70-5)
pins: 1 NO "Analog IO, Normally Open", 2 COM "Analog IO, Normally Open", 3 GND (power) "Ground", 4 Vcc (power) "1.65V to 6.5V", 5 IN (in) "Normally Open Switch Control"

## TS5A3167
designator SW?
TI 500nA, 1.65 to 5.5V Analog SPST Switch
footprint SC70 (Ultra low Power LDO - TI)
footprint SOT-23-5 (SOT-23/SC-74A; 5 Leads; Body 3 x 3.1 mm, inc. leads (LxW max))
pins: 1 NC "Normally Closed Connection", 2 COM "Common Port", 3 GND (power), 4 IN (in) "Control for Normally Closed Switch", 5 V+ (power) "1.65 to 5.5V"

## Tyco  517345920
designator C?
50 Pin Connecter
footprint Tyco  517345920 (Giganto Connecter)
pins: 1 14, 2 14, 3 14, 4 14, 5 14, 6 14, 7 14, 8 14, 9 14, 10 14, 11 14, 12 14, 13 14, 14, 15 14, 16 14, 17 14, 18 14, 19 14, 20 14, 21 14, 22 14, 23 14, 24 14, 25 14, 26 14, 27 14, 28 14, 29 14, 30 14, 31 14, 32 14, 33 14, 34 14, 35 14, 36 14, 37 14, 38 14, 39 14, 40 14, 41 14, 42 14, 43 14, 44 14, 45 14, 46 14, 47 14, 48 14, 49 14, 50 14

## Var-Cap/603
designator CV?, comment Var Cap  (value not drawn)
Var-Cap 603 Compatible, DK: 490-2009 & SG2026CT; DNS: Do Not Stuff Part; Part Number: *; Digi-Key PN: 490-2009 & SG2026CT
footprint Var-Cap_603 (Var-Cap 603 Compatible, DK: 490-2009 & SG2026CT)
pins: 1 "Output", 2 "Output"

## Variable Resisitor
designator *
footprint Potentiometer-2mm(panasonic)
footprint Potentiometer-3mm(panasonic)
footprint potentiometer-4mm(panasonic)
pins: 1, 2, 3

## VCNL4020
designator U?
IR Detector
footprint VCNL4020 (Weird Footprint IR IC)
pins: 1 IR Anode, 2 SDA, 3 INT, 4 SCL, 5 VDD, 6 NC, 7 NC, 8 GND, 9 GND, 10 IR Cathode